# EAGLE library part ATXMEGA---A1 (library PAS)
ATXMEGA64A3-AU in the TQFP-64 pin package.
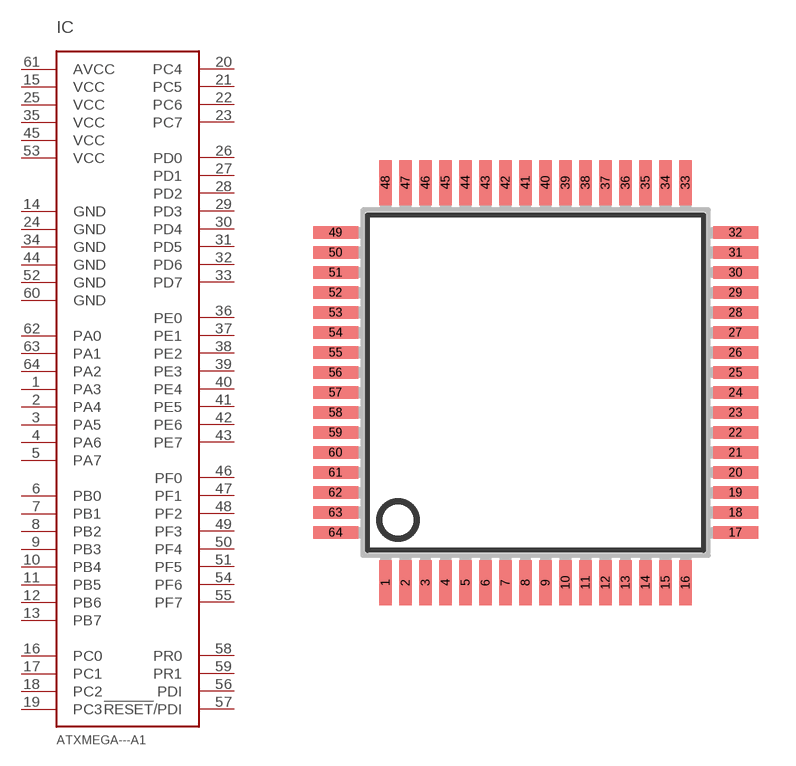
[diagram p2: symbol with the pads of SQFP-S-14X14-64; footprint SQFP-S-14X14-64]

Designator prefix IC

## ATXMEGA---A1  [SQFP-S-14X14-64]
1  PA3  pas
2  PA4  pas
3  PA5  pas
4  PA6  pas
5  PA7  pas
6  PB0  pas
7  PB1  pas
8  PB2  pas
9  PB3  pas
10  PB4  pas
11  PB5  pas
12  PB6  pas
13  PB7  pas
14  GND  pas
15  VCC  pas
16  PC0  pas
17  PC1  pas
18  PC2  pas
19  PC3  pas
20  PC4  pas
21  PC5  pas
22  PC6  pas
23  PC7  pas
24  GND  pas
25  VCC  pas
26  PD0  pas
27  PD1  pas
28  PD2  pas
29  PD3  pas
30  PD4  pas
31  PD5  pas
32  PD6  pas
33  PD7  pas
34  GND  pas
35  VCC  pas
36  PE0  pas
37  PE1  pas
38  PE2  pas
39  PE3  pas
40  PE4  pas
41  PE5  pas
42  PE6  pas
43  PE7  pas
44  GND  pas
45  VCC  pas
46  PF0  pas
47  PF1  pas
48  PF2  pas
49  PF3  pas
50  PF4  pas
51  PF5  pas
52  GND  pas
53  VCC  pas
54  PF6  pas
55  PF7  pas
56  PDI  pas
57  !RESET!/PDI  pas
58  PR0  pas
59  PR1  pas
60  GND  pas
61  AVCC  pas
62  PA0  pas
63  PA1  pas
64  PA2  pas

## Footprint SQFP-S-14X14-64 (pad centres in mm)
QFP64 shrink quad flat pack, square
smd 0.5 x 1.8: 1 -6,-8; 2 -5.2,-8; 3 -4.4,-8; 4 -3.6,-8; 5 -2.8,-8; 6 -2,-8; 7 -1.2,-8; 8 -0.4,-8; 9 0.4,-8; 10 1.2,-8; 11 2,-8; 12 2.8,-8; 13 3.6,-8; 14 4.4,-8; 15 5.2,-8; 16 6,-8; 33 6,8; 34 5.2,8; 35 4.4,8; 36 3.6,8; 37 2.8,8; 38 2,8; 39 1.2,8; 40 0.4,8; 41 -0.4,8; 42 -1.2,8; 43 -2,8; 44 -2.8,8; 45 -3.6,8; 46 -4.4,8; 47 -5.2,8; 48 -6,8
smd 1.8 x 0.5: 17 8,-6; 18 8,-5.2; 19 8,-4.4; 20 8,-3.6; 21 8,-2.8; 22 8,-2; 23 8,-1.2; 24 8,-0.4; 25 8,0.4; 26 8,1.2; 27 8,2; 28 8,2.8; 29 8,3.6; 30 8,4.4; 31 8,5.2; 32 8,6; 49 -8,6; 50 -8,5.2; 51 -8,4.4; 52 -8,3.6; 53 -8,2.8; 54 -8,2; 55 -8,1.2; 56 -8,0.4; 57 -8,-0.4; 58 -8,-1.2; 59 -8,-2; 60 -8,-2.8; 61 -8,-3.6; 62 -8,-4.4; 63 -8,-5.2; 64 -8,-6